# Altium schematic symbol library VoltageLevelTranslator.SchLib: 3 symbols
Pins are listed as number, name and electrical type; pins without a type are passive.

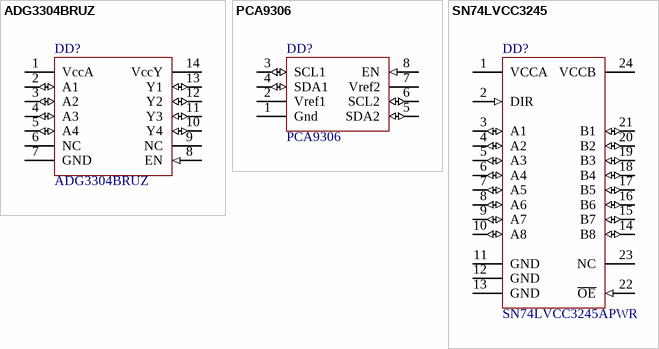
[diagram p0: symbols ADG3304BRUZ to SN74LVCC3245]

## ADG3304BRUZ
designator DD?
TSSOP14,1.15 V to 5.5 V, 4-Channel,  Bidirectional Logic Level Translator
footprint TSSOP65P640X120-14N (TSTSOP, 14-Leads, Body 5,00x4,40mm, Pitch 0,65mm, IPC Medium Density)
pins: 1 VccA (power), 2 A1 (io), 3 A2 (io), 4 A3 (io), 5 A4 (io), 6 NC, 7 GND (power), 8 EN (in), 9 NC, 10 Y4 (io), 11 Y3 (io), 12 Y2 (io), 13 Y1 (io), 14 VccY (power)

## PCA9306
designator DD?
Dual Bidirectional I  2C Bus and SMBus Voltage-Level Translator
footprint SSOP65P400X130-8N (SSOP, 8-Leads, Body 2,95x2,80mm, Pitch 0,65mm, IPC Medium Density)
pins: 1 Gnd (power), 2 Vref1 (power), 3 SCL1 (io), 4 SDA1 (io), 5 SDA2 (io), 6 SCL2 (io), 7 Vref2 (power), 8 EN (in)

## SN74LVCC3245
designator DD?, comment SN74LVCC3245APWR
Octal bus transceiver with adjustable output voltage and 3-state outputs
footprint TSSOP65P640X120-24N (TSSOP, 24-Leads, Body 7,80x4,40mm, Pitch 0,65mm, IPC Medium Density)
pins: 1 VCCA (power), 2 DIR (in), 3 A1 (io), 4 A2 (io), 5 A3 (io), 6 A4 (io), 7 A5 (io), 8 A6 (io), 9 A7 (io), 10 A8 (io), 11 GND (power), 12 GND (power), 13 GND (power), 14 B8 (io), 15 B7 (io), 16 B6 (io), 17 B5 (io), 18 B4 (io), 19 B3 (io), 20 B2 (io), 21 B1 (io), 22 ~{OE} (in), 23 NC, 24 VCCB (power)